# Altium schematic symbol library Discrete.SchLib: 157 symbols (part 1 of 2)
Pins are listed as number, name and electrical type; pins without a type are passive.

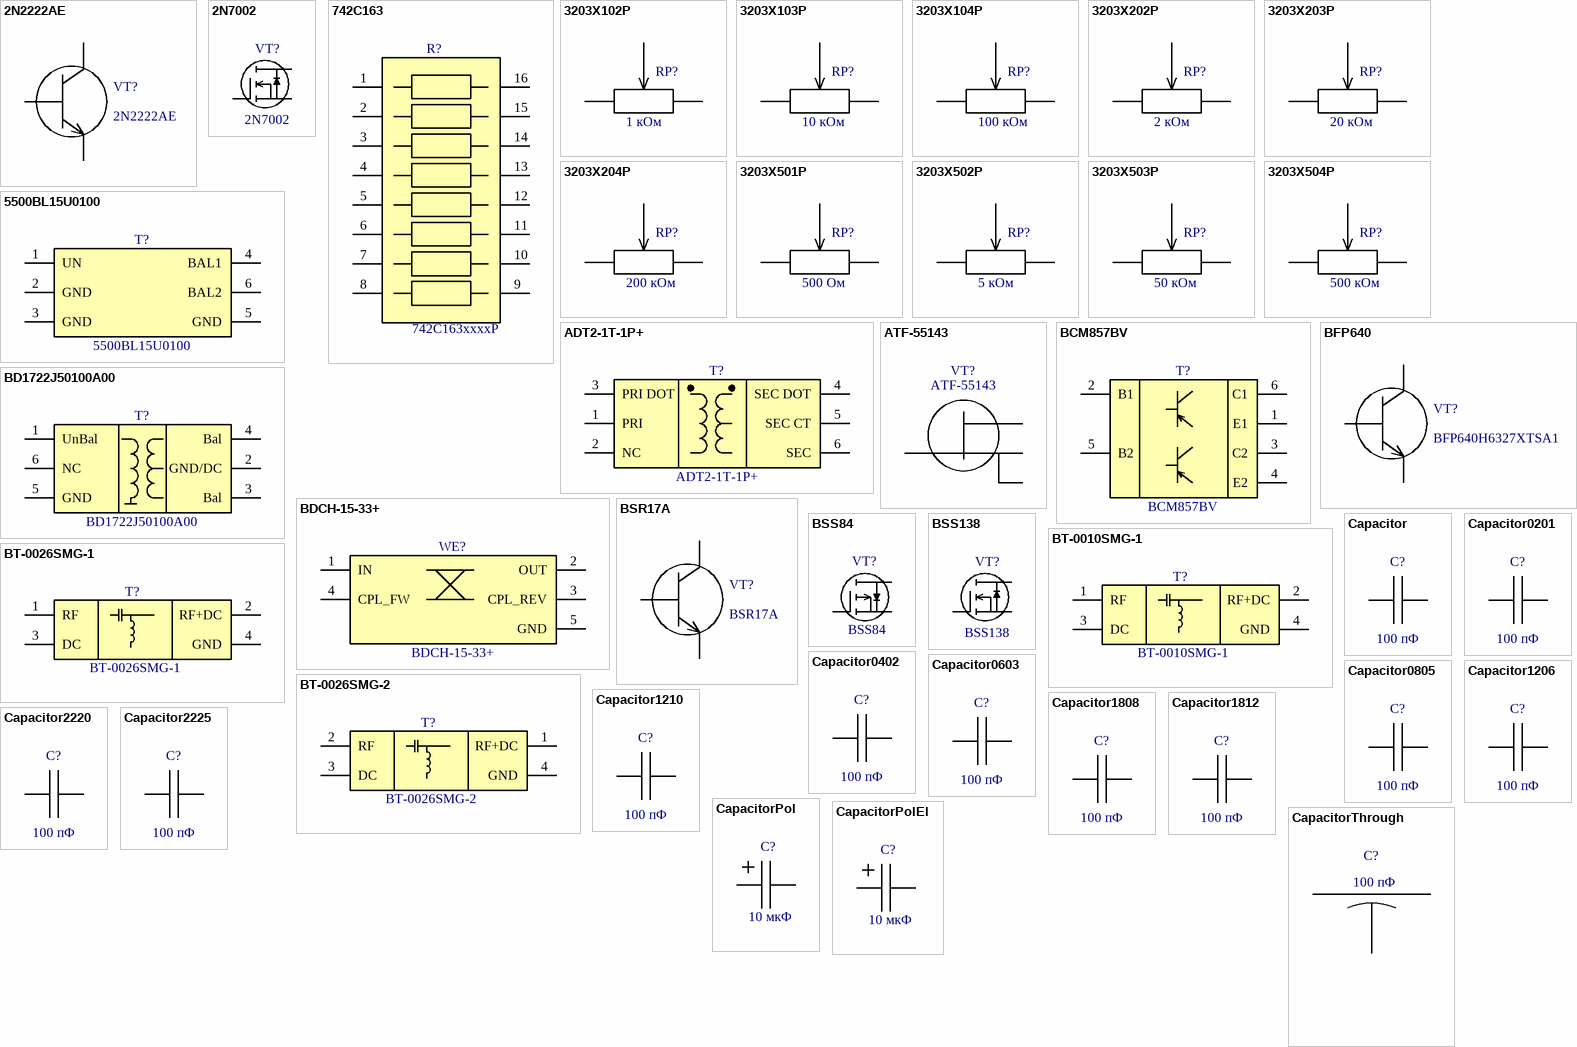
[diagram p0: symbols 2N2222AE to CapacitorThrough]

## 2N2222AE
designator VT?
NPN Transistor, General Purpose Transistor; PartNumber: 2N2222AE; Manufacturer: *
footprint TRXSOFL3P50_160X160X80L40X26 (Transistor, Small Outline Flat Lead (SOFL), 0.50 mm pitch; 3 pin, 1.60 mm L X 0.825 mm W X 0.80 mm H body)
pins: 1 B "base", 2 E "emitter", 3 C "collector"

## 2N7002
designator VT?
N-CHANNEL ENHANCEMENT MODE MOSFET; Manufacturer: Diodes Inc; PartNumber: 2N7002; ComponentLink1Description: Product Page; ComponentLink1URL: https://www.diodes.com/part/view/2N7002; ComponentLink2Description: DataSheet; ComponentLink2URL: https://www.diodes.com/assets/Datasheets/2N7002.pdf
footprint SOT23-3P91_240X115L40X40N (Small Outline Transistor (SOT23), 0.915 mm pitch; 3 pin, 2.90 mm L X 1.30 mm W X 1.15 mm H body)
pins: 1 G, 2 S, 3 D

## 742C163
designator R?, comment 742C163xxxxP
Chip Resistor Array 0603 X 8 Isolated; Manufacturer: CTS Components; PartNumber: 742C163xxxxP; Value: *; Tolerance: *; Power: *; DCV: *; ComponentLink1Description: Product Page; ComponentLink1URL: https://www.ctscorp.com/connect_product_line/resistor-networks-rc-terminations/; ComponentLink2Description: DataSheet; ComponentLink2URL: https://www.ctscorp.com/wp-content/uploads/74x.pdf
footprint RESCAV16P80_640X160X70L30X50N (Chip Array, 2 Side Concave, 0.80 mm pitch; 16 pin, 6.40 mm L X 1.60 mm W X 0.70 mm H body)
pins: 1, 2, 3, 4, 5, 6, 7, 8, 9, 10, 11, 12, 13, 14, 15, 16

## 3203X102P
designator RP?, comment 1 кОм
1K Ω, Cermet, Continuous Trimmer Potentiometer, .25 %, Surface Mount, 3.4 x 3.4 x 2 mm, .05 W, 1 Turns, Top, Horizontal, ±100 ppm/°C, Citec 3203; PartNumber: 3203X102P; Manufacturer: TE Connectivity; Tolerance: ±0,25%; Power: 1/20 Вт; Value: 1 кОм; ComponentLink1Description: Product Page; ComponentLink1URL: https://www.te.com/usa-en/product-1623916-2.html
footprint TE 3203X (TE Connectivity 3203X)
pins: 1, 2, 3

## 3203X103P
designator RP?, comment 10 кОм
10K Ω, Cermet, Continuous Trimmer Potentiometer, .25 %, Surface Mount, 3.4 x 3.4 x 2 mm, .05 W, 1 Turns, Top, Horizontal, ±100 ppm/°C, Citec 3203; PartNumber: 3203X103P; Manufacturer: TE Connectivity; Tolerance: ±0,25%; Power: 1/20 Вт; Value: 10 кОм; ComponentLink1Description: Product Page; ComponentLink1URL: https://www.te.com/usa-en/product-1623916-3.html
footprint TE 3203X (TE Connectivity 3203X)
pins: 1, 2, 3

## 3203X104P
designator RP?, comment 100 кОм
100K Ω, Cermet, Continuous Trimmer Potentiometer, .25 %, Surface Mount, 3.4 x 3.4 x 2 mm, .05 W, 1 Turns, Top, Horizontal, ±100 ppm/°C, Citec 3203; PartNumber: 3203X104P; Manufacturer: TE Connectivity; Tolerance: ±0,25%; Power: 1/20 Вт; Value: 100 кОм; ComponentLink1Description: Product Page; ComponentLink1URL: https://www.te.com/usa-en/product-1623916-4.html
footprint TE 3203X (TE Connectivity 3203X)
pins: 1, 2, 3

## 3203X202P
designator RP?, comment 2 кОм
2K Ω, Cermet, Continuous Trimmer Potentiometer, .25 %, Surface Mount, 3.4 x 3.4 x 2 mm, .05 W, 1 Turns, Top, Horizontal, ±100 ppm/°C, Citec 3203; PartNumber: 3203X202P; Manufacturer: TE Connectivity; Tolerance: ±0,25%; Power: 1/20 Вт; Value: 2 кОм; ComponentLink1Description: Product Page; ComponentLink1URL: https://www.te.com/usa-en/product-1623916-6.html
footprint TE 3203X (TE Connectivity 3203X)
pins: 1, 2, 3

## 3203X203P
designator RP?, comment 20 кОм
20K Ω, Cermet, Continuous Trimmer Potentiometer, .25 %, Surface Mount, 3.4 x 3.4 x 2 mm, .05 W, 1 Turns, Top, Horizontal, ±100 ppm/°C, Citec 3203; PartNumber: 3203X203P; Manufacturer: TE Connectivity; Tolerance: ±0,25%; Power: 1/20 Вт; Value: 20 кОм; ComponentLink1Description: Product Page; ComponentLink1URL: https://www.te.com/usa-en/product-1623916-7.html
footprint TE 3203X (TE Connectivity 3203X)
pins: 1, 2, 3

## 3203X204P
designator RP?, comment 200 кОм
200K Ω, Cermet, Continuous Trimmer Potentiometer, .25 %, Surface Mount, 3.4 x 3.4 x 2 mm, .05 W, 1 Turns, Top, Horizontal, ±100 ppm/°C, Citec 3203; PartNumber: 3203X204P; Manufacturer: TE Connectivity; Tolerance: ±0,25%; Power: 1/20 Вт; Value: 200 кОм; ComponentLink1Description: Product Page; ComponentLink1URL: https://www.te.com/usa-en/product-1623916-8.html
footprint TE 3203X (TE Connectivity 3203X)
pins: 1, 2, 3

## 3203X501P
designator RP?, comment 500 Ом
500 Ω, Cermet, Continuous Trimmer Potentiometer, .25 %, Surface Mount, 3.4 x 3.4 x 2 mm, .05 W, 1 Turns, Top, Horizontal, ±100 ppm/°C, Citec 3203; PartNumber: 3203X501P; Manufacturer: TE Connectivity; Tolerance: ±0,25%; Power: 1/20 Вт; Value: 500 Ом; ComponentLink1Description: Product Page; ComponentLink1URL: https://www.te.com/usa-en/product-1623916-9.html
footprint TE 3203X (TE Connectivity 3203X)
pins: 1, 2, 3

## 3203X502P
designator RP?, comment 5 кОм
5K Ω, Cermet, Single Turn Trimmer Potentiometer, .25 %, Surface Mount, 3.4 x 3.4 x 2 mm, .05 W, 1 Turns, Top, Horizontal, ±100 ppm/°C, Citec 3203; PartNumber: 3203X502P; Manufacturer: TE Connectivity; Tolerance: ±0,25%; Power: 1/20 Вт; Value: 5 кОм; ComponentLink1Description: Product Page; ComponentLink1URL: https://www.te.com/usa-en/product-1-1623916-0.html
footprint TE 3203X (TE Connectivity 3203X)
pins: 1, 2, 3

## 3203X503P
designator RP?, comment 50 кОм
50K Ω, Cermet, Continuous Trimmer Potentiometer, .25 %, Surface Mount, 3.4 x 3.4 x 2 mm, .05 W, 1 Turns, Top, Horizontal, ±100 ppm/°C, Citec 3203; PartNumber: 3203X503P; Manufacturer: TE Connectivity; Tolerance: ±0,25%; Power: 1/20 Вт; Value: 50 кОм; ComponentLink1Description: Product Page; ComponentLink1URL: https://www.te.com/usa-en/product-1-1623916-1.html
footprint TE 3203X (TE Connectivity 3203X)
pins: 1, 2, 3

## 3203X504P
designator RP?, comment 500 кОм
500K Ω, Cermet, Continuous Trimmer Potentiometer, .25 %, Surface Mount, 3.4 x 3.4 x 2 mm, .05 W, 1 Turns, Top, Horizontal, ±100 ppm/°C, Citec 3203; PartNumber: 3203X504P; Manufacturer: TE Connectivity; Tolerance: ±0,25%; Power: 1/20 Вт; Value: 500 кОм; ComponentLink1Description: Product Page; ComponentLink1URL: https://www.te.com/usa-en/product-1-1623916-2.html
footprint TE 3203X (TE Connectivity 3203X)
pins: 1, 2, 3

## 5500BL15U0100
designator T?
UWB Balun (3 - 8 GHz); Manufacturer: Johanson; PartNumber: 5500BL15U0100; ComponentLink1Description: Product Page; ComponentLink1URL: https://www.johansontechnology.com/baluns?option=com_products&id=5500BL15U0100; ComponentLink2Description: DataSheet; ComponentLink2URL: https://www.johansontechnology.com/datasheets/5500BL15U0100/5500BL15U0100.pdf
footprint ICCAF6P65_200X125X105L27X30N (Chip Array, 2 Side Flat, 0.65 mm pitch; 6 pin, 2.00 mm L X 1.25 mm W X 1.05 mm H body)
pins: 1 UN, 2 GND, 3 GND, 4 BAL1, 5 GND, 6 BAL2

## ADT2-1T-1P+
designator T?
1:2 CORE & WIRE Transformer, 8 - 600 MHz, 50Ω; Manufacturer: Mini-Circuits; PartNumber: ADT2-1T-1P+; ComponentLink1Description: Product Page; ComponentLink1URL: https://www.minicircuits.com/WebStore/dashboard.html?model=ADT2-1T-1P%2B; ComponentLink2Description: DataSheet; ComponentLink2URL: https://www.minicircuits.com/WebStore/dashboardPdf?model=ADT2-1T-1P%2B
footprint CD542 (Mini-Circuirts case CD542)
pins: 1 PRI, 2 NC, 3 PRI DOT, 4 SEC DOT, 5 SEC CT, 6 SEC

## ATF-55143
designator VT?
Low Noise PHEMT w/t dbl source; Manufacturer: Broadcom; PartNumber: ATF-55143
footprint SOT343-4RP130_210X120L28X27N (Small Outline Transistor (SOT143), 1.30 mm pitch; 4 pin, 2.05 mm L X 1.25 mm W X 1.20 mm H body (w/reversed pins))
pins: 1 S1, 2 D, 3 S2, 4 G

## BCM857BV
designator T?
PNP/PNP matched double transistor; Manufacturer: Nexperia; PartNumber: BCM857BV; ComponentLink1Description: ProductPage; ComponentLink1URL: https://www.nexperia.com/products/bipolar-transistors/special-feature-transistors/matched-pair-transistors/BCM857BV.html; ComponentLink2Description: DataSheet; ComponentLink2URL: https://assets.nexperia.com/documents/data-sheet/BCM857BV_BS_DS.pdf
footprint SOTFL50P160X60-6N (SOTFL, 6-Leads, Body 1.60x1.60mm, Pitch 0.50mm, IPC Medium Density)
pins: 1 E1, 2 B1, 3 C2, 4 E2, 5 B2, 6 C1

## BD1722J50100A00
designator T?
Ultra Low Profile 0805 Balun 50 to 100 Balanced; Manufacturer: Anaren Microwave; PartNumber: BD1722J50100A00; ComponentLink1Description: Product Page; ComponentLink1URL: https://www.ttm.com/en/solutions/rfs-components/xinger-components/balun-transformers; ComponentLink2Description: DataSheet; ComponentLink2URL: https://cdn.ttm.com/repository/products/wireless-xinger/balun-transformers/BD1722J50100AHF/BD1722J50100AHF_97_E.pdf
footprint PSON6P65_200X125X75L22X30N (Pullback Small Outline No-Lead (PSON), 0.65 mm pitch; 6 pin, 2.00 mm L X 1.25 mm W X 0.75 mm H body)
pins: 1 UnBal, 2 GND/DC, 3 Bal, 4 Bal, 5 GND, 6 NC

## BDCH-15-33+
designator WE?
15.5 dB SMT Bi-Directional Coupler, 500 - 3000 MHz, 50Ω; Manufacturer: Mini-Circuits; PartNumber: BDCH-15-33+; ComponentLink1Description: Product Page; ComponentLink1URL: https://www.minicircuits.com/WebStore/dashboard.html?model=BDCH-15-33%2B; ComponentLink2Description: DataSheet; ComponentLink2URL: https://www.minicircuits.com/WebStore/dashboardPdf?model=BDCH-15-33%2B
footprint PQ2098 (Mini-Circuits CASE PQ2098)
pins: 1 IN, 2 OUT, 3 CPL_REV, 4 CPL_FW, 5 GND

## BFP640
designator VT?, comment BFP640H6327XTSA1
Surface mount high linearity silicon NPN RF bipolar transistor; Manufacturer: Infineon; PartNumber: BFP640H6327XTSA1; ComponentLink1Description: Product Page; ComponentLink1URL: https://www.infineon.com/cms/en/product/rf/rf-transistor/low-noise-rf-transistors/bfp640/#; ComponentLink2Description: DataSheet; ComponentLink2URL: https://www.infineon.com/dgdl/Infineon-BFP640-DS-v03_00-EN.pdf?fileId=5546d462689a790c01690f03a9ca3928
footprint Infineon SOT343 (Small Outline Transistor (SOT143), 1.30 mm pitch; 4 pin, 2.00 mm L X 1.25 mm W X 1.00 mm H body); pin to pad 2>2+4
pins: 1 B "base", 2 E "emitter", 3 C "collector"

## BSR17A
designator VT?
NPN Transistor, General Purpose Transistor; Manufacturer: OnSemi; PartNumber: BSR17A; ComponentLink1Description: Product Page; ComponentLink1URL: https://www.onsemi.com/products/discrete-power-modules/general-purpose-and-low-vcesat-transistors/bsr17a; ComponentLink2Description: DataSheet; ComponentLink2URL: https://www.onsemi.com/download/data-sheet/pdf/bsr17a-d.pdf
footprint SOT23-3P95_240X120L30X48N (Small Outline Transistor (SOT23), 0.95 mm pitch; 3 pin, 2.92 mm L X 1.325 mm W X 1.20 mm H body)
pins: 1 B "base", 2 E "emitter", 3 C "collector"

## BSS84
designator VT?
P-CHANNEL ENHANCEMENT MODE MOSFET; Manufacturer: Diodes Inc; PartNumber: BSS84; ComponentLink1Description: Product Page; ComponentLink1URL: https://www.diodes.com/part/view/BSS84; ComponentLink2Description: DataSheet; ComponentLink2URL: https://www.diodes.com/assets/Datasheets/BSS84.pdf
footprint SOT23-3P91_240X115L40X40N (Small Outline Transistor (SOT23), 0.915 mm pitch; 3 pin, 2.90 mm L X 1.30 mm W X 1.15 mm H body)
pins: 1 G, 2 S, 3 D

## BSS138
designator VT?
N-Channel Logic Level Enhancement Mode Field Effect Transistor; Manufacturer: OnSemi; PartNumber: BSS138; ComponentLink1Description: Product Page; ComponentLink1URL: https://www.onsemi.com/products/discrete-power-modules/mosfets/BSS138; ComponentLink2Description: DataSheet; ComponentLink2URL: https://www.onsemi.com/download/data-sheet/pdf/bss138-d.pdf
footprint SOT23-3P95_240X111L42X43N (Small Outline Transistor (SOT23), 0.95 mm pitch; 3 pin, 2.90 mm L X 1.30 mm W X 1.11 mm H body)
pins: 1 G, 2 S, 3 D

## BT-0010SMG-1
designator T?
20 MHz - 10 GHz Bias Tee, Surface Mount, Port Configiration 1; Manufacturer: Marki; PartNumber: BT-0010SMG-1; ComponentLink1Description: DataSheet; ComponentLink1URL: https://www.markimicrowave.com/Assets/datasheets/BT-0010SMG.pdf?v=032921
footprint BT-0010SMG (Marki Microwave case BT-0010SMG-1)
pins: 1 RF, 2 RF+DC, 3 DC, 4 GND

## BT-0026SMG-1
designator T?
20 MHz - 26 GHz Bias Tee, Surface Mount, Port Configiration 1; Manufacturer: Marki; PartNumber: BT-0026SMG-1; ComponentLink1Description: Product Page; ComponentLink1URL: https://markimicrowave.com/products/surface-mount/bias-tees-dc-blocks/bt-0026smg-1/datasheet/; ComponentLink2Description: DataSheet; ComponentLink2URL: https://markimicrowave.com/assets/9dd9949d-5389-4c94-b8b9-a7fec51fc8cb/BT-0026SMG-1-Miniature%20Surface%20Mount%20Bias%20Tee.pdf
footprint BT-0026SMG-1 (Marki Microwave case BT-0010SMG-1)
pins: 1 RF, 2 RF+DC, 3 DC, 4 GND

## BT-0026SMG-2
designator T?
20 MHz - 26 GHz Bias Tee, Surface Mount, Port Configiration 2; Manufacturer: Marki; PartNumber: BT-0026SMG-2; ComponentLink1Description: Product Page; ComponentLink1URL: https://markimicrowave.com/products/surface-mount/bias-tees-dc-blocks/bt-0026smg-2/datasheet/; ComponentLink2Description: DataSheet; ComponentLink2URL: https://markimicrowave.com/assets/6264d400-366a-4899-8997-82a3fa326f06/BT-0026SMG-2-Miniature%20Surface%20Mount%20Bias%20Tee.pdf
footprint BT-0026SMG-2 (Marki Microwave case BT-0010SMG-2)
pins: 1 RF+DC, 2 RF, 3 DC, 4 GND

## Capacitor
designator C?, comment 100 пФ
Capacitor, generic; Value: 100 пФ; PartNumber: *; Tolerance: *; VDC: *; Dielectric: *; Manufacturer: *; Package: 0402
footprint CAPC60X30X33L15N (Capacitor, Chip; 0.60 mm L X 0.30 mm W X 0.33 mm H body)
footprint CAPC100X50X55L20N (Capacitor, Chip; 1.00 mm L X 0.50 mm W X 0.55 mm H body)
footprint CAPC146X140X145L31N (Capacitor, Chip; 1.465 mm L X 1.40 mm W X 1.45 mm H body)
footprint CAPC160X80X90L30N (Capacitor, Chip; 1.60 mm L X 0.80 mm W X 0.90 mm H body)
footprint CAPC200X125X95L50N (Capacitor, Chip; 2.00 mm L X 1.25 mm W X 0.95 mm H body)
footprint CAPC320X160X180L20N (Capacitor, Chip; 3.20 mm L X 1.60 mm W X 1.80 mm H body)
footprint CAPC320X250X280L20N (Capacitor, Chip; 3.20 mm L X 2.50 mm W X 2.80 mm H body)
footprint CAPC450X320X360L20N (Capacitor, Chip; 4.50 mm L X 3.20 mm W X 3.60 mm H body)
footprint CAPC470X200X115L60N (Capacitor, Chip; 4.70 mm L X 2.00 mm W X 1.15 mm H body)
footprint CAPC560X640X155L60N (Capacitor, Chip; 5.60 mm L X 6.40 mm W X 1.55 mm H body)
footprint CAPC570X500X310L20N (Capacitor, Chip; 5.70 mm L X 5.00 mm W X 3.10 mm H body)
pins: 1, 2

## Capacitor0201
designator C?, comment 100 пФ
Capacitor, chip, 0201; Value: 100 пФ; PartNumber: *; Tolerance: *; VDC: *; Dielectric: *; Manufacturer: *; Package: 0201
footprint CAPC60X30X33L15N (Capacitor, Chip; 0.60 mm L X 0.30 mm W X 0.33 mm H body)
pins: 1, 2

## Capacitor0402
designator C?, comment 100 пФ
Capacitor, chip, 0402; Value: 100 пФ; PartNumber: *; Tolerance: *; VDC: *; Dielectric: *; Manufacturer: *; Package: 0402
footprint CAPC100X50X55L20N (Capacitor, Chip; 1.00 mm L X 0.50 mm W X 0.55 mm H body)
pins: 1, 2

## Capacitor0603
designator C?, comment 100 пФ
Capacitor, chip, 0603; Value: 100 пФ; PartNumber: *; Tolerance: *; VDC: *; Dielectric: *; Manufacturer: *; Package: 0603
footprint CAPC160X80X90L30N (Capacitor, Chip; 1.60 mm L X 0.80 mm W X 0.90 mm H body)
pins: 1, 2

## Capacitor0805
designator C?, comment 100 пФ
Capacitor, chip, 0805; Value: 100 пФ; PartNumber: *; Tolerance: *; VDC: *; Dielectric: *; Manufacturer: *; Package: 0805
footprint CAPC200X125X95L50N (Capacitor, Chip; 2.00 mm L X 1.25 mm W X 0.95 mm H body)
pins: 1, 2

## Capacitor1206
designator C?, comment 100 пФ
Capacitor, chip, 1206; Value: 100 пФ; PartNumber: *; Tolerance: *; VDC: *; Dielectric: *; Manufacturer: *; Package: 1206
footprint CAPC320X160X180L20N (Capacitor, Chip; 3.20 mm L X 1.60 mm W X 1.80 mm H body)
pins: 1, 2

## Capacitor1210
designator C?, comment 100 пФ
Capacitor, chip, 1210; Value: 100 пФ; PartNumber: *; Tolerance: *; VDC: *; Dielectric: *; Manufacturer: *; Package: 1210
footprint CAPC320X250X280L20N (Capacitor, Chip; 3.20 mm L X 2.50 mm W X 2.80 mm H body)
pins: 1, 2

## Capacitor1808
designator C?, comment 100 пФ
Capacitor, chip, 1808; Value: 100 пФ; PartNumber: *; Tolerance: *; VDC: *; Dielectric: *; Manufacturer: *; Package: 1808
footprint CAPC470X200X115L60N (Capacitor, Chip; 4.70 mm L X 2.00 mm W X 1.15 mm H body)
pins: 1, 2

## Capacitor1812
designator C?, comment 100 пФ
Capacitor, chip, 1812; Value: 100 пФ; PartNumber: *; Tolerance: *; VDC: *; Dielectric: *; Manufacturer: *; Package: 1812
footprint CAPC450X320X360L20N (Capacitor, Chip; 4.50 mm L X 3.20 mm W X 3.60 mm H body)
pins: 1, 2

## Capacitor2220
designator C?, comment 100 пФ
Capacitor, chip, 2220; Value: 100 пФ; PartNumber: *; Tolerance: *; VDC: *; Dielectric: *; Manufacturer: *; Package: 2220
footprint CAPC570X500X310L20N (Capacitor, Chip; 5.70 mm L X 5.00 mm W X 3.10 mm H body)
pins: 1, 2

## Capacitor2225
designator C?, comment 100 пФ
Capacitor, chip, 2225; Value: 100 пФ; PartNumber: *; Tolerance: *; VDC: *; Dielectric: *; Manufacturer: *; Package: 2225
footprint CAPC560X640X155L60N (Capacitor, Chip; 5.60 mm L X 6.40 mm W X 1.55 mm H body)
pins: 1, 2

## CapacitorPol
designator C?, comment 10 мкФ
Capacitor, Pol, generic; Value: 10 мкФ; PartNumber: *; Tolerance: *; VDC: *; Manufacturer: *; Package: 1206; ESR: *
footprint CAPPM320X160X180L80X120N (Capacitor, Polarized, Molded Body; 2.60 mm L X 1.60 mm W X 1.80 mm H body)
footprint CAPPM350X280X210L80X220N (Capacitor, Polarized, Molded Body; 2.90 mm L X 2.80 mm W X 2.10 mm H body)
footprint CAPPM600X320X280L130X240N (Capacitor, Polarized, Molded Body; 5.80 mm L X 3.20 mm W X 2.80 mm H body)
footprint CAPPM730X430X310L130X240N (Capacitor, Polarized, Molded Body; 7.10 mm L X 4.30 mm W X 3.10 mm H body)
pins: 1, 2

## CapacitorPolEl
designator C?, comment 10 мкФ
Capacitor, Pol, El, generic; Value: 10 мкФ; PartNumber: *; Tolerance: *; VDC: *; Manufacturer: *; Package: *; ESR: *
footprint CAPAE430X600D510L205X65N (Capacitor, Aluminum Electrolytic; 4.30 mm L X 4.30 mm W X 6.00 mm H body)
footprint CAPAE530X600D590L220X65N (Capacitor, Aluminum Electrolytic; 5.30 mm L X 5.30 mm W X 6.00 mm H body)
footprint CAPAE840X680D840L305X65N (Capacitor, Aluminum Electrolytic; 8.40 mm L X 8.40 mm W X 6.80 mm H body)
footprint CAPAE1030X1050D1200L350X90N (Capacitor, Aluminum Electrolytic; 10.30 mm L X 10.30 mm W X 10.50 mm H body)
footprint CAPAE660X610L260X65 (Capacitor, Aluminum Electrolytic; 6.60 mm L X 6.60 mm W X 6.10 mm H body)
footprint CAPAE830X700D900L290X70N (Capacitor, Aluminum Electrolytic; 8.30 mm L X 8.30 mm W X 7.00 mm H body)
pins: 1, 2

## CapacitorThrough
designator C?, comment 100 пФ
Capacitor, through, 3-terminal; Value: 100 пФ; PartNumber: *; Tolerance: *; VDC: *; Dielectric: *; Manufacturer: *; Package: 0402
footprint CAPCAF4P0_100X50X50L15X35N (Chip Array, 4 Side Flat, 0.00 mm pitch; rect., 1 pin X 1 pin, 1.00 mm L X 0.50 mm W X 0.50 mm H body)
footprint CAPCAF4P0_120X90X80L20X50N (Chip Array, 4 Side Flat, 0.00 mm pitch; rect., 1 pin X 1 pin, 1.20 mm L X 0.90 mm W X 0.80 mm H body)
footprint CAPCAF4P0_160X80X70L20X40N (Chip Array, 4 Side Flat, 0.00 mm pitch; rect., 1 pin X 1 pin, 1.60 mm L X 0.80 mm W X 0.70 mm H body)
footprint CAPCAF4P0_200X125X95L25X60N (Chip Array, 4 Side Flat, 0.00 mm pitch; rect., 1 pin X 1 pin, 2.00 mm L X 1.25 mm W X 0.95 mm H body)
footprint CAPCAF4P0_320X160X150L30X110N (Chip Array, 4 Side Flat, 0.00 mm pitch; rect., 1 pin X 1 pin, 3.20 mm L X 1.60 mm W X 1.50 mm H body)
footprint CAPCAF4P0_450X160X120L35X150N (Chip Array, 4 Side Flat, 0.00 mm pitch; rect., 1 pin X 1 pin, 4.50 mm L X 1.60 mm W X 1.20 mm H body)
pins: 1, 2, 3

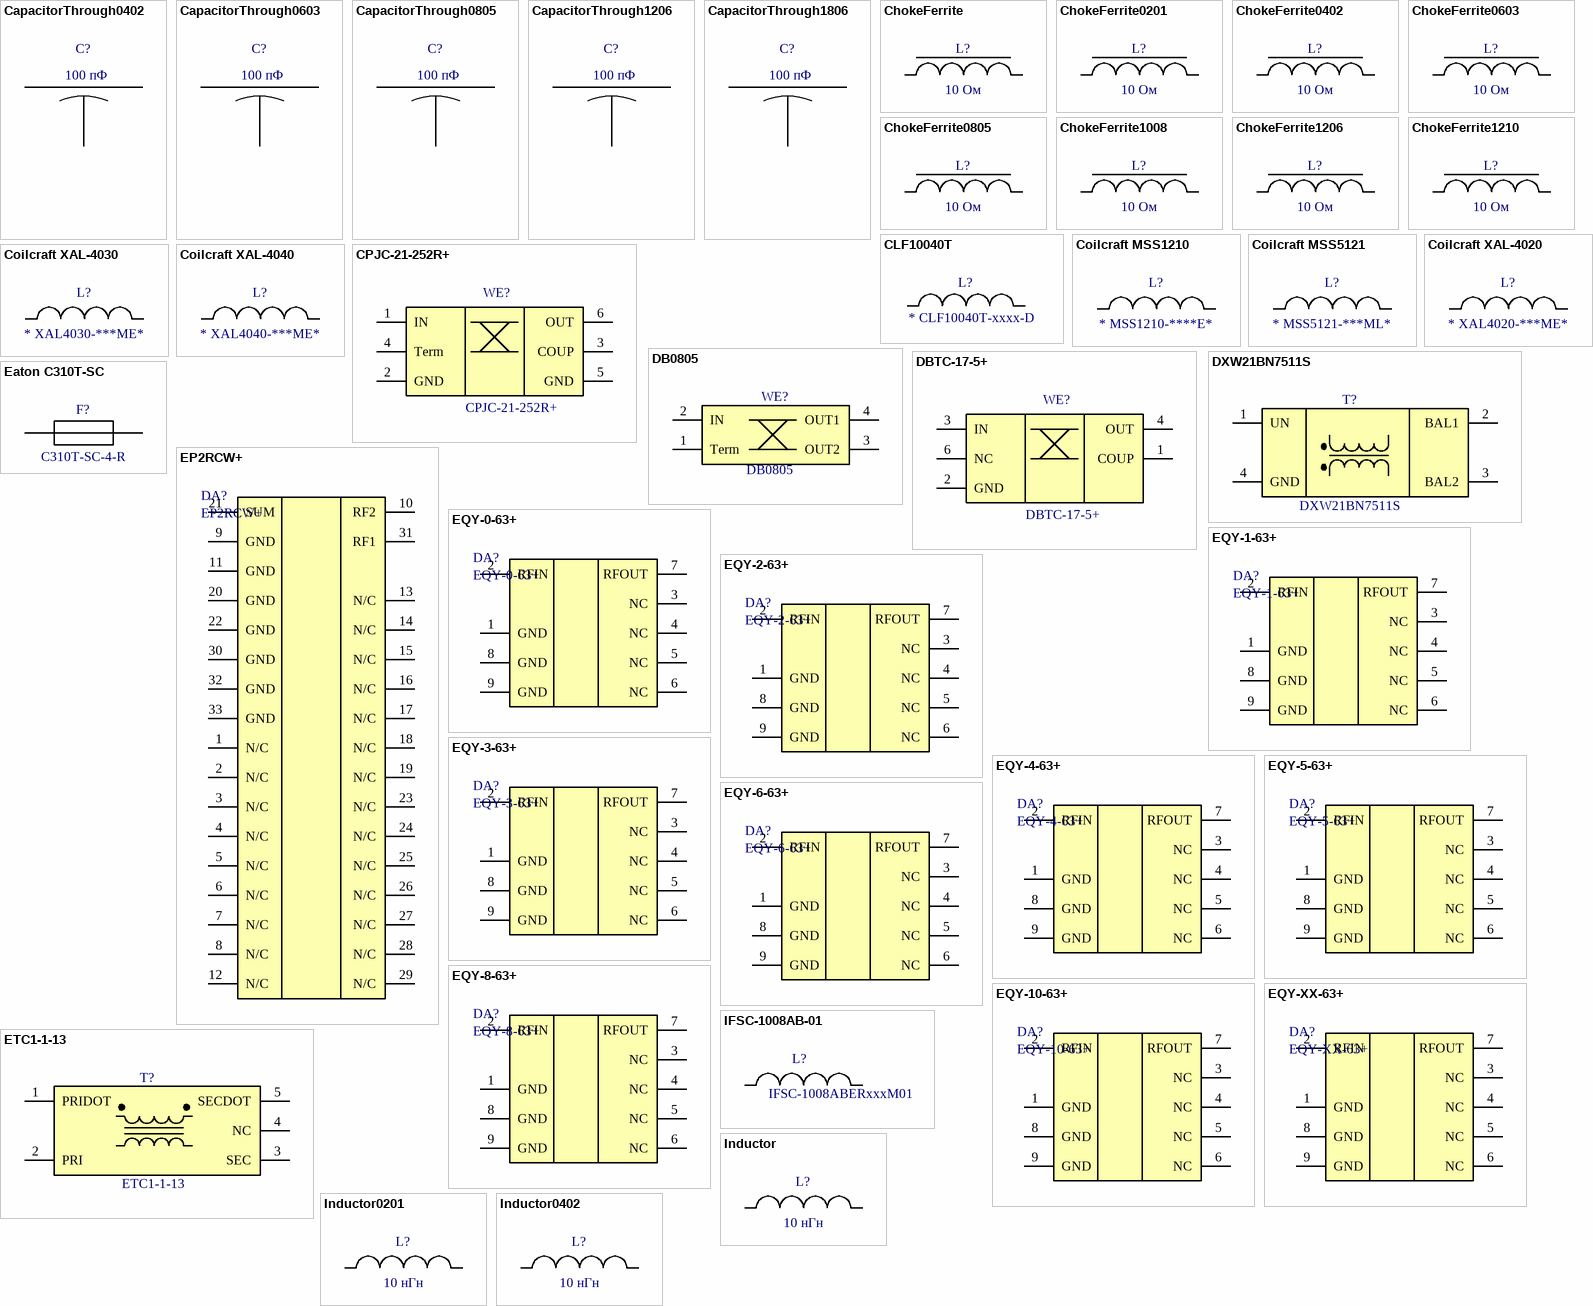
[diagram p1: symbols CapacitorThrough0402 to Inductor0402]

## CapacitorThrough0402
designator C?, comment 100 пФ
Capacitor, through, 3-terminal, 0402; Value: 100 пФ; PartNumber: *; Tolerance: *; VDC: *; Dielectric: *; Manufacturer: *; Package: 0402
footprint CAPCAF4P0_100X50X50L15X35N (Chip Array, 4 Side Flat, 0.00 mm pitch; rect., 1 pin X 1 pin, 1.00 mm L X 0.50 mm W X 0.50 mm H body)
pins: 1, 2, 3

## CapacitorThrough0603
designator C?, comment 100 пФ
Capacitor, through, 3-terminal, 0603; Value: 100 пФ; PartNumber: *; Tolerance: *; VDC: *; Dielectric: *; Manufacturer: *; Package: 0603
footprint CAPCAF4P0_160X80X70L20X40N (Chip Array, 4 Side Flat, 0.00 mm pitch; rect., 1 pin X 1 pin, 1.60 mm L X 0.80 mm W X 0.70 mm H body)
pins: 1, 2, 3

## CapacitorThrough0805
designator C?, comment 100 пФ
Capacitor, through, 3-terminal, 0805; Value: 100 пФ; PartNumber: *; Tolerance: *; VDC: *; Dielectric: *; Manufacturer: *; Package: 0805
footprint CAPCAF4P0_200X125X95L25X60N (Chip Array, 4 Side Flat, 0.00 mm pitch; rect., 1 pin X 1 pin, 2.00 mm L X 1.25 mm W X 0.95 mm H body)
pins: 1, 2, 3

## CapacitorThrough1206
designator C?, comment 100 пФ
Capacitor, through, 3-terminal, 1206; Value: 100 пФ; PartNumber: *; Tolerance: *; VDC: *; Dielectric: *; Manufacturer: *; Package: 1206
footprint CAPCAF4P0_320X160X150L30X110N (Chip Array, 4 Side Flat, 0.00 mm pitch; rect., 1 pin X 1 pin, 3.20 mm L X 1.60 mm W X 1.50 mm H body)
pins: 1, 2, 3

## CapacitorThrough1806
designator C?, comment 100 пФ
Capacitor, through, 3-terminal, 1806; Value: 100 пФ; PartNumber: *; Tolerance: *; VDC: *; Dielectric: *; Manufacturer: *; Package: 1806
footprint CAPCAF4P0_450X160X120L35X150N (Chip Array, 4 Side Flat, 0.00 mm pitch; rect., 1 pin X 1 pin, 4.50 mm L X 1.60 mm W X 1.20 mm H body)
pins: 1, 2, 3

## ChokeFerrite
designator L?, comment 10 Ом
Choke, Ferrite Core, SMD; Value: 10 Ом; PartNumber: *; Tolerance: *; DCR: *; IRMS: *; DCI: *; Manufacturer: *; Package: 0402
footprint BEADC60X30X33L10N (Ferrite Bead, Chip; 0.60 mm L X 0.30 mm W X 0.33 mm H body)
footprint BEADC100X50X55L20N (Ferrite Bead, Chip; 1.00 mm L X 0.50 mm W X 0.55 mm H body)
footprint BEADC160X80X100L30N (Ferrite Bead, Chip; 1.60 mm L X 0.80 mm W X 1.00 mm H body)
footprint BEADC200X125X105L50N (Ferrite Bead, Chip; 2.00 mm L X 1.25 mm W X 1.05 mm H body)
footprint BEADC250X200X100L50N (Ferrite Bead, Chip; 2.50 mm L X 2.00 mm W X 1.00 mm H body)
footprint BEADC320X160X180L70N (Ferrite Bead, Chip; 3.20 mm L X 1.60 mm W X 1.80 mm H body)
footprint BEADC320X250X170L70N (Ferrite Bead, Chip; 3.20 mm L X 2.50 mm W X 1.70 mm H body)
pins: 1, 2

## ChokeFerrite0201
designator L?, comment 10 Ом
Choke, Ferrite Core, SMD, 0201; Value: 10 Ом; PartNumber: *; Tolerance: *; DCR: *; IRMS: *; DCI: *; Manufacturer: *; Package: 0201
footprint BEADC60X30X33L10N (Ferrite Bead, Chip; 0.60 mm L X 0.30 mm W X 0.33 mm H body)
pins: 1, 2

## ChokeFerrite0402
designator L?, comment 10 Ом
Choke, Ferrite Core, SMD, 0402; Value: 10 Ом; PartNumber: *; Tolerance: *; DCR: *; IRMS: *; DCI: *; Manufacturer: *; Package: 0402
footprint BEADC100X50X55L20N (Ferrite Bead, Chip; 1.00 mm L X 0.50 mm W X 0.55 mm H body)
pins: 1, 2

## ChokeFerrite0603
designator L?, comment 10 Ом
Choke, Ferrite Core, SMD, 0603; Value: 10 Ом; PartNumber: *; Tolerance: *; DCR: *; IRMS: *; DCI: *; Manufacturer: *; Package: 0603
footprint BEADC160X80X100L30N (Ferrite Bead, Chip; 1.60 mm L X 0.80 mm W X 1.00 mm H body)
pins: 1, 2

## ChokeFerrite0805
designator L?, comment 10 Ом
Choke, Ferrite Core, SMD, 0805; Value: 10 Ом; PartNumber: *; Tolerance: *; DCR: *; IRMS: *; DCI: *; Manufacturer: *; Package: 0805
footprint BEADC200X125X105L50N (Ferrite Bead, Chip; 2.00 mm L X 1.25 mm W X 1.05 mm H body)
pins: 1, 2

## ChokeFerrite1008
designator L?, comment 10 Ом
Choke, Ferrite Core, SMD, 1008; Value: 10 Ом; PartNumber: *; Tolerance: *; DCR: *; IRMS: *; DCI: *; Manufacturer: *; Package: 1008
footprint BEADC250X200X100L50N (Ferrite Bead, Chip; 2.50 mm L X 2.00 mm W X 1.00 mm H body)
pins: 1, 2

## ChokeFerrite1206
designator L?, comment 10 Ом
Choke, Ferrite Core, SMD, 1206; Value: 10 Ом; PartNumber: *; Tolerance: *; DCR: *; IRMS: *; DCI: *; Manufacturer: *; Package: 1206
footprint BEADC320X160X180L70N (Ferrite Bead, Chip; 3.20 mm L X 1.60 mm W X 1.80 mm H body)
pins: 1, 2

## ChokeFerrite1210
designator L?, comment 10 Ом
Choke, Ferrite Core, SMD, 1210; Value: 10 Ом; PartNumber: *; Tolerance: *; DCR: *; IRMS: *; DCI: *; Manufacturer: *; Package: 1210
footprint BEADC320X250X170L70N (Ferrite Bead, Chip; 3.20 mm L X 2.50 mm W X 1.70 mm H body)
pins: 1, 2

## CLF10040T
designator L?, comment * CLF10040T-xxxx-D
Inductors for power circuits, Wound ferrite, CLF-D series (for automotive); Manufacturer: Coilcraft; Value: *; Tolerance: *; DCR: *; ISAT: *; IRMS: *; PartNumber: CLF10040T-xxxx-D
footprint COILCRAFT_CLF10040-D (Coilcraft 10x9.7x3.8 shileded inductor)
pins: 1, 2

## Coilcraft MSS1210
designator L?, comment * MSS1210-****E*
Coilcraft Shielded Power Inductors, 12.3x12.3x10; Value: *; PartNumber: MSS1210-****E*; Tolerance: *; DCR: *; IRMS: *; ISAT: *; SRF: *; Manufacturer: Coilcraft
footprint COILCRAFT_MSS1210 (Coilcraft Shielded Power Inductors, 12.3x12.3x10)
pins: 1, 2

## Coilcraft MSS5121
designator L?, comment * MSS5121-***ML*
MSS5121 Series Shielded Surface Mount Power Inductors, 5.1x5.1x2.2; Manufacturer: Coilcraft; Tolerance: ±20%; Value: *; PartNumber: MSS5121-***ML*; DCR: *; IRMS: *; ISAT: *; SRF: *
footprint Coilcraft MSS5121 (MSS5121 Series Shielded Surface Mount Power Inductors, 5.1x5.1x2.2)
pins: 1, 2

## Coilcraft XAL-4020
designator L?, comment * XAL4020-***ME*
Coilcraft Shielded Power Inductor, 4x4x2; Tolerance: ±20%; Value: *; PartNumber: XAL4020-***ME*; DCR: *; IRMS: *; ISAT: *; SRF: *; Manufacturer: Coilcraft
footprint COILCRAFT_XAL4020 (Coilcraft Power Inductor, 4x4x2)
pins: 1, 2

## Coilcraft XAL-4030
designator L?, comment * XAL4030-***ME*
Coilcraft Shielded Power Inductor, 4x4x3; Tolerance: ±20%; Value: *; PartNumber: XAL4030-***ME*; DCR: *; IRMS: *; ISAT: *; SRF: *; Manufacturer: Coilcraft
footprint COILCRAFT_XAL4030 (Coilcraft Power Inductor, 4x4x3)
pins: 1, 2

## Coilcraft XAL-4040
designator L?, comment * XAL4040-***ME*
Coilcraft Shielded Power Inductor, 4x4x4; Tolerance: ±20%; Value: *; PartNumber: XAL4040-***ME*; DCR: *; IRMS: *; ISAT: *; SRF: *; Manufacturer: Coilcraft
footprint COILCRAFT_XAL4040 (Coilcraft Power Inductor, 4x4x4)
pins: 1, 2

## CPJC-21-252R+
designator WE?
Directional Coupler 50Ω, 17dB coupling, 50 to 2000 MHz; Manufacturer: Mini-Circuits; PartNumber: CPJC-21-252R+; ComponentLink1Description: Product Page; ComponentLink1URL: https://www.minicircuits.com/WebStore/dashboard.html?model=CPJC-21-252R%2B; ComponentLink2Description: DataSheet; ComponentLink2URL: https://www.minicircuits.com/WebStore/dashboardPdf?model=CPJC-21-252R%2B
footprint JC0603C (Mini-Circuits CASE JC0603C)
pins: 1 IN, 2 GND, 3 COUP, 4 Term, 5 GND, 6 OUT

## DB0805
designator WE?
Thin-Film Directional Coupler 3dB 90°; Manufacturer: Kyocera AVX; PartNumber: DB0805; ComponentLink1Description: Product Page; ComponentLink1URL: https://www.kyocera-avx.com/products/rfmicrowave/couplers/db0805/
footprint AVXRF DB0805 (AVX RF case DB0805)
pins: 1 Term, 2 IN, 3 OUT2, 4 OUT1

## DBTC-17-5+
designator WE?
Directional Coupler 50Ω, 17dB coupling, 50 to 2000 MHz; Manufacturer: Mini-Circuits; PartNumber: DBTC-17-5+; ComponentLink1Description: Product Page; ComponentLink1URL: https://www.minicircuits.com/WebStore/dashboard.html?model=DBTC-17-5%2B; ComponentLink2Description: DataSheet; ComponentLink2URL: https://www.minicircuits.com/WebStore/dashboardPdf?model=DBTC-17-5%2B
footprint AT790-1 (Mini-Circuirts case AT790-1)
pins: 1 COUP, 2 GND, 3 IN, 4 OUT, 6 NC

## DXW21BN7511S
designator T?
Ultra miniature size and wire wound type microchip / transformer. 2.0x1.2x1.2mm; Manufacturer: Murata; PartNumber: DXW21BN7511S; ComponentLink1Description: ProductPage; ComponentLink1URL: https://www.murata.com/en-eu/products/productdetail?partno=DXW21BN7511S%23; ComponentLink2Description: DataSheet; ComponentLink2URL: https://www.murata.com/products/productdata/8796776267806/EFKA0001.pdf?1655782219000
footprint DXW21BN7511S (Murata 2012 4-terminal)
pins: 1 UN, 2 BAL1, 3 BAL2, 4 GND

## Eaton C310T-SC
designator F?, comment C310T-SC-4-R
Fuse Subminiature Slow Blow Acting 4A 250V Axial 3.6 X 10mm Ceramic; Manufacturer: Eaton; PartNumber: C310T-SC-4-R; ComponentLink1Description: Product Page; ComponentLink1URL: https://www.eaton.com/gb/en-gb/catalog/electronic-components/c310t-sc-fuse.specifications.html
footprint EATON C310T-SC (3.6 mm x 10 mm pitch 13.5 mm)
pins: 1, 2

## EP2RCW+
designator DA?
2 Ways MMIC Power Splitter, DC - 8000 MHz, 50Ω; Manufacturer: Mini-Circuits; PartNumber: EP2RCW+; ComponentLink1Description: Product Page; ComponentLink1URL: https://www.minicircuits.com/WebStore/dashboard.html?model=EP2RCW%2B; ComponentLink2Description: DataSheet; ComponentLink2URL: https://www.minicircuits.com/WebStore/dashboardPdf?model=EP2RCW%2B
footprint QFN33P50_500X500X100L40X24T380N (Quad Flat No-Lead (QFN with Tab), 0.50 mm pitch; square, 8 pin X 8 pin, 5.00 mm L X 5.00 mm W X 1.00 mm H body)
pins: 1 N/C, 2 N/C, 3 N/C, 4 N/C, 5 N/C, 6 N/C, 7 N/C, 8 N/C, 9 GND, 10 RF2, 11 GND, 12 N/C, 13 N/C, 14 N/C, 15 N/C, 16 N/C, 17 N/C, 18 N/C, 19 N/C, 20 GND, 21 SUM, 22 GND, 23 N/C, 24 N/C, 25 N/C, 26 N/C, 27 N/C, 28 N/C, 29 N/C, 30 GND, 31 RF1, 32 GND, 33 GND

## EQY-0-63+
designator DA?
-0.1 dB SMT Fixed Slope Equalizer, DC - 6000 MHz; Manufacturer: Mini-Circuits; PartNumber: EQY-0-63+; ComponentLink2Description: DataSheet; ComponentLink1Description: Product Page; ComponentLink1URL: https://www.minicircuits.com/WebStore/dashboard.html?model=EQY-0-63%2B; ComponentLink2URL: https://www.minicircuits.com/WebStore/dashboardPdf?model=EQY-0-63%2B
footprint SON9P50_200X200X100L35X23T120X60N (Small Outline No-Lead (SON with Tab), 0.50 mm pitch; 8 pin, 2.00 mm L X 2.00 mm W X 1.00 mm H body)
pins: 1 GND, 2 RFIN, 3 NC, 4 NC, 5 NC, 6 NC, 7 RFOUT, 8 GND, 9 GND

## EQY-1-63+
designator DA?
1.2 dB SMT Fixed Slope Equalizer, DC - 6000 MHz; Manufacturer: Mini-Circuits; PartNumber: EQY-1-63+; ComponentLink2Description: DataSheet; ComponentLink1Description: Product Page; ComponentLink1URL: https://www.minicircuits.com/WebStore/dashboard.html?model=EQY-1-63%2B; ComponentLink2URL: https://www.minicircuits.com/WebStore/dashboardPdf?model=EQY-1-63%2B
footprint SON9P50_200X200X100L35X23T120X60N (Small Outline No-Lead (SON with Tab), 0.50 mm pitch; 8 pin, 2.00 mm L X 2.00 mm W X 1.00 mm H body)
pins: 1 GND, 2 RFIN, 3 NC, 4 NC, 5 NC, 6 NC, 7 RFOUT, 8 GND, 9 GND

## EQY-2-63+
designator DA?
2.1 dB SMT Fixed Slope Equalizer, DC - 6000 MHz; Manufacturer: Mini-Circuits; PartNumber: EQY-2-63+; ComponentLink2Description: DataSheet; ComponentLink1Description: Product Page; ComponentLink1URL: https://www.minicircuits.com/WebStore/dashboard.html?model=EQY-2-63%2B; ComponentLink2URL: https://www.minicircuits.com/WebStore/dashboardPdf?model=EQY-2-63%2B
footprint SON9P50_200X200X100L35X23T120X60N (Small Outline No-Lead (SON with Tab), 0.50 mm pitch; 8 pin, 2.00 mm L X 2.00 mm W X 1.00 mm H body)
pins: 1 GND, 2 RFIN, 3 NC, 4 NC, 5 NC, 6 NC, 7 RFOUT, 8 GND, 9 GND

## EQY-3-63+
designator DA?
3.2 dB SMT Fixed Slope Equalizer, DC - 6000 MHz; Manufacturer: Mini-Circuits; PartNumber: EQY-3-63+; ComponentLink2Description: DataSheet; ComponentLink1Description: Product Page; ComponentLink1URL: https://www.minicircuits.com/WebStore/dashboard.html?model=EQY-3-63%2B; ComponentLink2URL: https://www.minicircuits.com/WebStore/dashboardPdf?model=EQY-3-63%2B
footprint SON9P50_200X200X100L35X23T120X60N (Small Outline No-Lead (SON with Tab), 0.50 mm pitch; 8 pin, 2.00 mm L X 2.00 mm W X 1.00 mm H body)
pins: 1 GND, 2 RFIN, 3 NC, 4 NC, 5 NC, 6 NC, 7 RFOUT, 8 GND, 9 GND

## EQY-4-63+
designator DA?
4.2 dB SMT Fixed Slope Equalizer, DC - 6000 MHz; Manufacturer: Mini-Circuits; PartNumber: EQY-4-63+; ComponentLink2Description: DataSheet; ComponentLink1Description: Product Page; ComponentLink1URL: https://www.minicircuits.com/WebStore/dashboard.html?model=EQY-4-63%2B; ComponentLink2URL: https://www.minicircuits.com/WebStore/dashboardPdf?model=EQY-4-63%2B
footprint SON9P50_200X200X100L35X23T120X60N (Small Outline No-Lead (SON with Tab), 0.50 mm pitch; 8 pin, 2.00 mm L X 2.00 mm W X 1.00 mm H body)
pins: 1 GND, 2 RFIN, 3 NC, 4 NC, 5 NC, 6 NC, 7 RFOUT, 8 GND, 9 GND

## EQY-5-63+
designator DA?
5 dB SMT Fixed Slope Equalizer, DC - 6000 MHz; Manufacturer: Mini-Circuits; PartNumber: EQY-5-63+; ComponentLink2Description: DataSheet; ComponentLink1Description: Product Page; ComponentLink1URL: https://www.minicircuits.com/WebStore/dashboard.html?model=EQY-5-63%2B; ComponentLink2URL: https://www.minicircuits.com/WebStore/dashboardPdf?model=EQY-5-63%2B
footprint SON9P50_200X200X100L35X23T120X60N (Small Outline No-Lead (SON with Tab), 0.50 mm pitch; 8 pin, 2.00 mm L X 2.00 mm W X 1.00 mm H body)
pins: 1 GND, 2 RFIN, 3 NC, 4 NC, 5 NC, 6 NC, 7 RFOUT, 8 GND, 9 GND

## EQY-6-63+
designator DA?
6.5 dB SMT Fixed Slope Equalizer, DC - 6000 MHz; Manufacturer: Mini-Circuits; PartNumber: EQY-6-63+; ComponentLink2Description: DataSheet; ComponentLink1Description: Product Page; ComponentLink1URL: https://www.minicircuits.com/WebStore/dashboard.html?model=EQY-6-63%2B; ComponentLink2URL: https://www.minicircuits.com/WebStore/dashboardPdf?model=EQY-6-63%2B
footprint SON9P50_200X200X100L35X23T120X60N (Small Outline No-Lead (SON with Tab), 0.50 mm pitch; 8 pin, 2.00 mm L X 2.00 mm W X 1.00 mm H body)
pins: 1 GND, 2 RFIN, 3 NC, 4 NC, 5 NC, 6 NC, 7 RFOUT, 8 GND, 9 GND

## EQY-8-63+
designator DA?
8.2 dB SMT Fixed Slope Equalizer, DC - 6000 MHz; Manufacturer: Mini-Circuits; PartNumber: EQY-8-63+; ComponentLink2Description: DataSheet; ComponentLink1Description: Product Page; ComponentLink1URL: https://www.minicircuits.com/WebStore/dashboard.html?model=EQY-8-63%2B; ComponentLink2URL: https://www.minicircuits.com/WebStore/dashboardPdf?model=EQY-8-63%2B
footprint SON9P50_200X200X100L35X23T120X60N (Small Outline No-Lead (SON with Tab), 0.50 mm pitch; 8 pin, 2.00 mm L X 2.00 mm W X 1.00 mm H body)
pins: 1 GND, 2 RFIN, 3 NC, 4 NC, 5 NC, 6 NC, 7 RFOUT, 8 GND, 9 GND

## EQY-10-63+
designator DA?
10.2 dB SMT Fixed Slope Equalizer, DC - 6000 MHz; Manufacturer: Mini-Circuits; PartNumber: EQY-10-63+; ComponentLink2Description: DataSheet; ComponentLink1Description: Product Page; ComponentLink1URL: https://www.minicircuits.com/WebStore/dashboard.html?model=EQY-10-63%2B; ComponentLink2URL: https://www.minicircuits.com/WebStore/dashboardPdf?model=EQY-10-63%2B
footprint SON9P50_200X200X100L35X23T120X60N (Small Outline No-Lead (SON with Tab), 0.50 mm pitch; 8 pin, 2.00 mm L X 2.00 mm W X 1.00 mm H body)
pins: 1 GND, 2 RFIN, 3 NC, 4 NC, 5 NC, 6 NC, 7 RFOUT, 8 GND, 9 GND

## EQY-XX-63+
designator DA?
Gain Equalizers, 50Ω, DC to 6 GHz, Slope 0,1,2,3,4,5,6,8&10 dB; Manufacturer: Mini-Circuits; PartNumber: EQY-XX-63+; ComponentLink1Description: Mini-Circuits equalizers page; ComponentLink1URL: https://www.minicircuits.com/WebStore/equalizers.html#; ComponentLink2Description: DataSheet
footprint SON9P50_200X200X100L35X23T120X60N (Small Outline No-Lead (SON with Tab), 0.50 mm pitch; 8 pin, 2.00 mm L X 2.00 mm W X 1.00 mm H body)
pins: 1 GND, 2 RFIN, 3 NC, 4 NC, 5 NC, 6 NC, 7 RFOUT, 8 GND, 9 GND

## ETC1-1-13
designator T?
E-Series Transformer, RF 1:1 Transmission Line 4.5 -3000 MHz; Manufacturer: MACOM; PartNumber: ETC1-1-13; ComponentLink1Description: Product Page; ComponentLink1URL: https://www.macom.com/products/product-detail/ETC1-1-13
footprint ETC1-1-13 (MACOM ETC1-1-13)
pins: 1 PRIDOT, 2 PRI, 3 SEC, 4 NC, 5 SECDOT

## IFSC-1008AB-01
designator L?, comment IFSC-1008ABERxxxM01
Low Profile, High Current Inductors; Manufacturer: Vishay; Tolerance: ±20%; PartNumber: IFSC-1008ABERxxxM01; Value: *; DCR: *; ISAT: *; ComponentLink1Description: Product Page; ComponentLink1URL: https://www.vishay.com/en/product/34294/; Package: 1008
footprint VISHAY IFSC-1008AB-01 (VISHAY Low Profile Inductor, 2x2.5)
pins: 1, 2

## Inductor
designator L?, comment 10 нГн
Inductor, generic; Value: 10 нГн; PartNumber: *; Tolerance: *; DCR: *; IRMS: *; ISAT: *; SRF: *; Q: *; Manufacturer: *; Package: 0603
footprint INDC60X30X33L15N (Inductor, Chip; 0.60 mm L X 0.30 mm W X 0.33 mm H body)
footprint INDC100X50X55L20N (Inductor, Chip; 1.00 mm L X 0.50 mm W X 0.55 mm H body)
footprint INDC160X80X100L30N (Inductor, Chip; 1.60 mm L X 0.80 mm W X 1.00 mm H body)
footprint INDC200X120X140L50N (Inductor, Chip; 2.00 mm L X 1.20 mm W X 1.40 mm H body)
footprint INDC250X200X100L60N (Inductor, Chip; 2.50 mm L X 2.00 mm W X 1.00 mm H body)
footprint INDC320X160X130L50N (Inductor, Chip; 3.20 mm L X 1.60 mm W X 1.30 mm H body)
footprint INDC320X250X220L90N (Inductor, Chip; 3.20 mm L X 2.50 mm W X 2.20 mm H body)
footprint INDC450X320X300L70N (Inductor, Chip; 4.50 mm L X 3.20 mm W X 3.00 mm H body)
pins: 1, 2

## Inductor0201
designator L?, comment 10 нГн
Inductor, chip, 0201; Value: 10 нГн; PartNumber: *; Tolerance: *; DCR: *; IRMS: *; ISAT: *; SRF: *; Q: *; Manufacturer: *; Package: 0201
footprint INDC60X30X33L15N (Inductor, Chip; 0.60 mm L X 0.30 mm W X 0.33 mm H body)
pins: 1, 2

## Inductor0402
designator L?, comment 10 нГн
Inductor, chip, 0402; Value: 10 нГн; PartNumber: *; Tolerance: *; DCR: *; IRMS: *; ISAT: *; SRF: *; Q: *; Manufacturer: *; Package: 0402
footprint INDC100X50X55L20N (Inductor, Chip; 1.00 mm L X 0.50 mm W X 0.55 mm H body)
pins: 1, 2

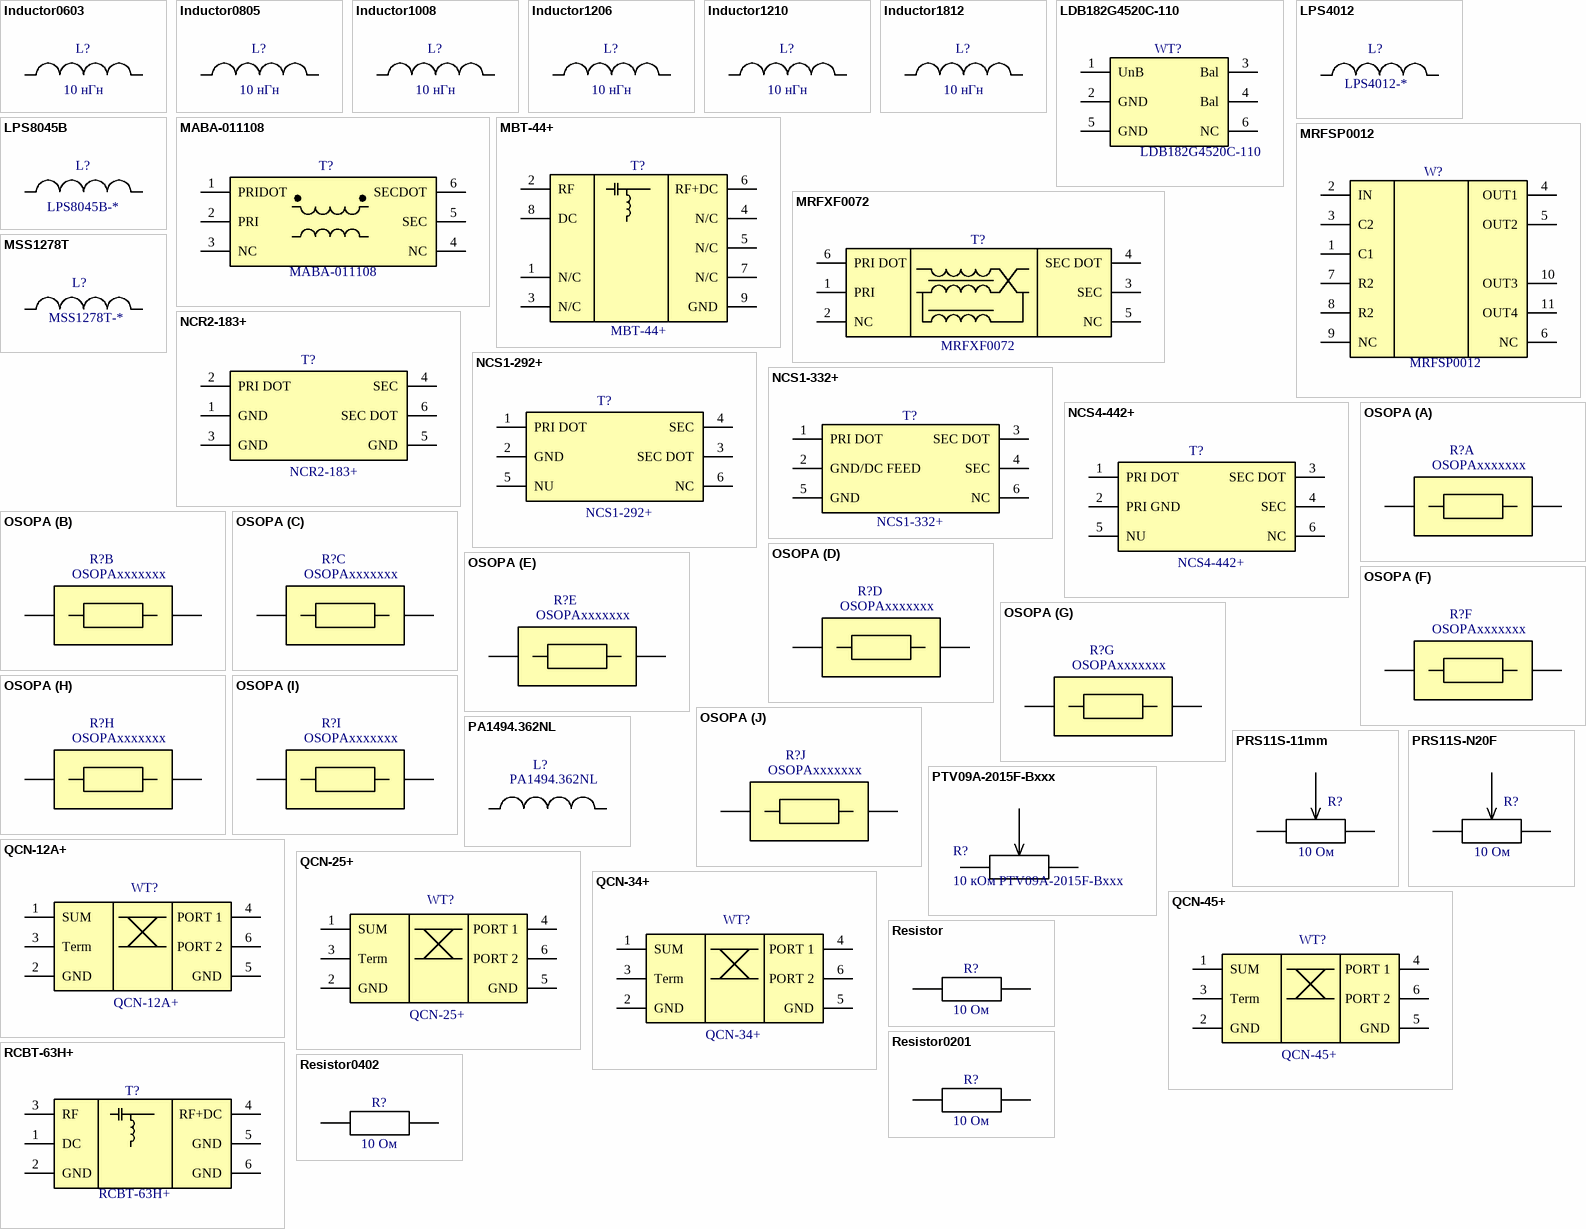
[diagram p2: symbols Inductor0603 to Resistor0402]

## Inductor0603
designator L?, comment 10 нГн
Inductor, chip, 0603; Value: 10 нГн; PartNumber: *; Tolerance: *; DCR: *; IRMS: *; ISAT: *; SRF: *; Q: *; Manufacturer: *; Package: 0603
footprint INDC160X80X100L30N (Inductor, Chip; 1.60 mm L X 0.80 mm W X 1.00 mm H body)
pins: 1, 2

## Inductor0805
designator L?, comment 10 нГн
Inductor, chip, 0805; Value: 10 нГн; PartNumber: *; Tolerance: *; DCR: *; IRMS: *; ISAT: *; SRF: *; Q: *; Manufacturer: *; Package: 0805
footprint INDC200X120X140L50N (Inductor, Chip; 2.00 mm L X 1.20 mm W X 1.40 mm H body)
pins: 1, 2

## Inductor1008
designator L?, comment 10 нГн
Inductor, chip, 0805; Value: 10 нГн; PartNumber: *; Tolerance: *; DCR: *; IRMS: *; ISAT: *; SRF: *; Q: *; Manufacturer: *; Package: 1008
footprint INDC250X200X100L60N (Inductor, Chip; 2.50 mm L X 2.00 mm W X 1.00 mm H body)
pins: 1, 2

## Inductor1206
designator L?, comment 10 нГн
Inductor, chip, 1206; Value: 10 нГн; PartNumber: *; Tolerance: *; DCR: *; IRMS: *; ISAT: *; SRF: *; Q: *; Manufacturer: *; Package: 1206
footprint INDC320X160X130L50N (Inductor, Chip; 3.20 mm L X 1.60 mm W X 1.30 mm H body)
pins: 1, 2

## Inductor1210
designator L?, comment 10 нГн
Inductor, chip, 1210; Value: 10 нГн; PartNumber: *; Tolerance: *; DCR: *; IRMS: *; ISAT: *; SRF: *; Q: *; Manufacturer: *; Package: 1210
footprint INDC320X250X220L90N (Inductor, Chip; 3.20 mm L X 2.50 mm W X 2.20 mm H body)
pins: 1, 2

## Inductor1812
designator L?, comment 10 нГн
Inductor, chip, 1812; Value: 10 нГн; PartNumber: *; Tolerance: *; DCR: *; IRMS: *; ISAT: *; SRF: *; Q: *; Manufacturer: *; Package: 1812
footprint INDC450X320X300L70N (Inductor, Chip; 4.50 mm L X 3.20 mm W X 3.00 mm H body)
pins: 1, 2

## LDB182G4520C-110
designator WT?
Chip Multilayer Hybrid Balun 2450.0 ±50.0MHz 50-200 Ohm; Manufacturer: Murata; PartNumber: LDB182G4520C-110
footprint ICCAF6P50_160X80X70L15X20N (Chip Array, 2 Side Flat, 0.50 mm pitch; 6 pin, 1.60 mm L X 0.80 mm W X 0.70 mm H body)
pins: 1 UnB, 2 GND, 3 Bal, 4 Bal, 5 GND, 6 NC

## LPS4012
designator L?, comment LPS4012-*
Low Profile Shielded Power Inductors; Manufacturer: Coilcraft; PartNumber: LPS4012-*; Value: *; DCR: *; SRF: *; ISAT: *; ComponentLink1Description: Product Page; ComponentLink1URL: https://www.coilcraft.com/en-us/products/power/shielded-inductors/ferrite-drum/lps/lps4012/?skuId=4989|8628; Tolerance: *; IRMS: *
footprint LPS4012 (Coilcraft LPS4012- series)
pins: 1, 2

## LPS8045B
designator L?, comment LPS8045B-*
Shielded Power Inductor; Manufacturer: Coilcraft; Value: 10 мкГн; Tolerance: ±20%; PartNumber: LPS8045B-*; DCR: *; SRF: *; ISAT: *; ComponentLink1Description: Product Page; ComponentLink1URL: https://www.coilcraft.com/en-us/products/power/shielded-inductors/ferrite-drum/lps/lps8045b/; IRMS: *
footprint COILCRAFT_LPS8045B (Coilcraft LPS8045B)
pins: 1, 2

## MABA-011108
designator T?
1:1 Transmission Line Balun 5 MHz - 10GHz; Manufacturer: MACOM; PartNumber: MABA-011108; ComponentLink1Description: Product Page; ComponentLink1URL: https://www.macom.com/products/product-detail/MABA-011108
footprint MABA-011108 (MA-COM 3.81X3.81X3.22 6-pin)
pins: 1 PRIDOT, 2 PRI, 3 NC, 4 NC, 5 SEC, 6 SECDOT

## MBT-44+
designator T?
MMIC WIDEBAND Bias Tee 50Ω 10 to 40 GHz; Manufacturer: Mini-Circuits; PartNumber: MBT-44+; ComponentLink1Description: Product Page; ComponentLink1URL: https://www.minicircuits.com/WebStore/dashboard.html?model=MBT-44%2B; ComponentLink2Description: DataSheet; ComponentLink2URL: https://www.minicircuits.com/WebStore/dashboardPdf?model=MBT-44%2B
footprint JV3002 (Mini-Circuits case JV3002)
pins: 1 N/C, 2 RF, 3 N/C, 4 N/C, 5 N/C, 6 RF+DC, 7 N/C, 8 DC, 9 GND

## MRFSP0012
designator W?
4-Way Splitter 5 to 1002 MHz; Manufacturer: MiniRF; PartNumber: MRFSP0012; ComponentLink1Description: ProductPage; ComponentLink1URL: https://www.rfmw.com/products/detail/mrfsp0012-minirf/465633/; ComponentLink2Description: DataSheet; ComponentLink2URL: http://www.minirf.com/pdf/splitters/MRFSP0012.pdf
footprint MRFSP0012 (MRFSP0012 Packadge S25)
pins: 1 C1, 2 IN, 3 C2, 4 OUT1, 5 OUT2, 6 NC, 7 R2, 8 R2, 9 NC, 10 OUT3, 11 OUT4

## MRFXF0072
designator T?
1:1 SMT TRANSFORMER 75 Ohm; Manufacturer: MiniRF; PartNumber: MRFXF0072; ComponentLink1Description: Product Page; ComponentLink1URL: https://www.rfmw.com/products/detail/mrfxf0072-minirf/701862/; ComponentLink2Description: DataSheet; ComponentLink2URL: http://minirf.com/images/MRFXF0072.pdf
footprint MiniRF CASE S-18D (6 pin, 2.54 pitch, 7.11 x 6.35 x 3.18)
pins: 1 PRI, 2 NC, 3 SEC, 4 SEC DOT, 5 NC, 6 PRI DOT

## MSS1278T
designator L?, comment MSS1278T-*
Colicraft SMT Power Inductors; Manufacturer: Coilcraft; PartNumber: MSS1278T-*; Value: *; DCR: *; SRF: *; ISAT: *; ComponentLink1Description: Product Page; ComponentLink1URL: https://www.coilcraft.com/en-us/products/power/shielded-inductors/ferrite-drum/mss-mos/mss1278t/; IRMS: *; Tolerance: *
footprint MSS1278T (Coilcraft MSS1278T Series)
pins: 1, 2

## NCR2-183+
designator T?
RF Transformer; Manufacturer: Mini-Circuits; PartNumber: NCR2-183+; ComponentLink1Description: Product Page; ComponentLink1URL: https://www.minicircuits.com/WebStore/dashboard.html?model=NCR2-183%2B; ComponentLink2Description: DataSheet; ComponentLink2URL: https://www.minicircuits.com/WebStore/dashboardPdf?model=NCR2-183%2B
footprint NF1846-1 (Mini-Circuits case NF1846-1)
pins: 1 GND, 2 PRI DOT, 3 GND, 4 SEC, 5 GND, 6 SEC DOT

## NCS1-292+
designator T?
RF Transformer; Manufacturer: Mini-Circuits; PartNumber: NCS1-292+; ComponentLink1Description: Product Page; ComponentLink1URL: https://www.minicircuits.com/WebStore/dashboard.html?model=NCS1-292%2B; ComponentLink2Description: DataSheet; ComponentLink2URL: https://www.minicircuits.com/WebStore/dashboardPdf?model=NCS1-292%2B
footprint GE0805C-1 (Mini-Circuits case GE0805C-1)
pins: 1 PRI DOT, 2 GND, 3 SEC DOT, 4 SEC, 5 NU, 6 NC

## NCS1-332+
designator T?
RF Transformer, 50Ω 700 to 3300, MHz 1:1 Ratio; Manufacturer: Mini-Circuits; PartNumber: NCS1-332+; ComponentLink1Description: Product Page; ComponentLink1URL: https://www.minicircuits.com/WebStore/dashboard.html?model=NCS1-332%2B; ComponentLink2Description: DataSheet; ComponentLink2URL: https://www.minicircuits.com/WebStore/dashboardPdf?model=NCS1-332%2B
footprint GE0805C-9 (Mini-Circuits case GE0805C-9)
pins: 1 PRI DOT, 2 GND/DC FEED, 3 SEC DOT, 4 SEC, 5 GND, 6 NC

## NCS4-442+
designator T?
RF Transformer 50Ω 3300 to 4200 MHz 1:4 Ratio; Manufacturer: Mini-Circuits; PartNumber: NCS4-442+; ComponentLink1Description: Product Page; ComponentLink1URL: https://www.minicircuits.com/WebStore/dashboard.html?model=NCS4-442%2B; ComponentLink2Description: DataSheet; ComponentLink2URL: https://www.minicircuits.com/WebStore/dashboardPdf?model=NCS4-442%2B
footprint GE0805C-1 (Mini-Circuits case GE0805C-1)
pins: 1 PRI DOT, 2 PRI GND, 3 SEC DOT, 4 SEC, 5 NU, 6 NC

## OSOPA
designator R?, comment OSOPAxxxxxxx
Dual-In-Line Thin Film Resistor,  Surface Mount Network, Isolated; Manufacturer: Vishay; PartNumber: OSOPAxxxxxxx; Value: *; Tolerance: *; Power: *; DCV: *; ComponentLink1Description: Product Page; ComponentLink1URL: https://www.vishay.com/en/product/60002/; ComponentLink2Description: DataSheet; ComponentLink2URL: https://www.vishay.com/docs/60002/osop.pdf
footprint SOP20P63_866X602X173L64X25N (Small Outline Pkg (SOP), 0.635 mm pitch; 20 pin, 8.66 mm L X 3.91 mm W X 1.73 mm H body)
part A pins: 1, 20
part B pins: 2, 19
part C pins: 3, 18
part D pins: 4, 17
part E pins: 5, 16
part F pins: 6, 15
part G pins: 7, 14
part H pins: 8, 13
part I pins: 9, 12
part J pins: 10, 11

## PA1494.362NL
designator L?
SMT POWER INDUCTOR Planar - PA1X9XNL Series; Manufacturer: Pulse; Value: 3,3 мкГн; PartNumber: PA1494.362NL; Tolerance: *; DCR: *; IRMS: *; ISAT: *; SRF: *; Q: *; ComponentLink1Description: Product Page; ComponentLink1URL: https://productfinder.pulseelectronics.com/part/pa1494.362nlt; ComponentLink2Description: DataSheet; ComponentLink2URL: https://productfinder.pulseelectronics.com/api/open/part-attachments/datasheet/pa1494.362nlt
footprint PA1494 (Pulse Planar inductor)
pins: 1, 2

## PRS11S-11mm
designator R?, comment 10 Ом
11 mm SMD Potentiometer; PartNumber: PRS11S-*; Manufacturer: Bourns; Value: 10 Ом; ComponentLink1Description: DataSheet; ComponentLink1URL: https://www.bourns.com/data/global/pdfs/PRS11S.pdf
footprint PRS11S-11mm (Bourns 11 mm SMD Potentiometer with Mounting Holes)
pins: 1, 2, 3

## PRS11S-N20F
designator R?, comment 10 Ом
PRS11S - 11 mm SMD Potentiometer; PartNumber: PRS11S-N20F; Manufacturer: Bourns; Value: 10 Ом; ComponentLink1Description: DataSheet; ComponentLink1URL: https://www.bourns.com/data/global/pdfs/PRS11S.pdf
footprint PRS11S (PRS11S - 11 mm SMD Potentiometer)
pins: 1, 2, 3

## PTV09A-2015F-Bxxx
designator R?, comment 10 кОм PTV09A-2015F-Bxxx
PTV09 Series - 9 mm Potentiometer / Vertical/Side Mount, / Bushingless, 10 mm Height; Manufacturer: Bourns; Value: 10 кОм; Tolerance: ±20%; VDC: 20 В; Power: 1/20 Вт; PartNumber: PTV09A-2015F-Bxxx; ComponentLink1Description: DataSheet; ComponentLink1URL: https://www.bourns.com/docs/Product-Datasheets/PTV09.pdf
footprint PTV09A-2015F (Bourns Vertical/Side Mount,  Bushingless, 10 mm Height)
pins: 1, 2, 3

## QCN-12A+
designator WT?
Power Splitter/Combiner; Manufacturer: Mini-Circuits; PartNumber: QCN-12A+; ComponentLink1Description: Product Page; ComponentLink1URL: https://www.minicircuits.com/WebStore/dashboard.html?model=QCN-12A%2B; ComponentLink2Description: DataSheet; ComponentLink2URL: https://www.minicircuits.com/WebStore/dashboardPdf?model=QCN-12A%2B
footprint FV1206-1 (Mini-Circuits case FV1206-1)
pins: 1 SUM, 2 GND, 3 Term, 4 PORT 1, 5 GND, 6 PORT 2

## QCN-25+
designator WT?
Power Splitter/Combiner; Manufacturer: Mini-Circuits; PartNumber: QCN-25+; ComponentLink1Description: Product Page; ComponentLink1URL: https://www.minicircuits.com/WebStore/dashboard.html?model=QCN-25%2B; ComponentLink2Description: DataSheet; ComponentLink2URL: https://www.minicircuits.com/WebStore/dashboardPdf?model=QCN-25%2B
footprint FV1206-1 (Mini-Circuits case FV1206-1)
pins: 1 SUM, 2 GND, 3 Term, 4 PORT 1, 5 GND, 6 PORT 2

## QCN-34+
designator WT?
Power Splitter/Combiner; Manufacturer: Mini-Circuits; PartNumber: QCN-34+; ComponentLink1Description: Product Page; ComponentLink1URL: https://www.minicircuits.com/WebStore/dashboard.html?model=QCN-34%2B; ComponentLink2Description: DataSheet; ComponentLink2URL: https://www.minicircuits.com/WebStore/dashboardPdf?model=QCN-34%2B
footprint FV1206-1 (Mini-Circuits case FV1206-1)
pins: 1 SUM, 2 GND, 3 Term, 4 PORT 1, 5 GND, 6 PORT 2

## QCN-45+
designator WT?
Power Splitter/Combiner; Manufacturer: Mini-Circuits; PartNumber: QCN-45+; ComponentLink1Description: Product Page; ComponentLink1URL: https://www.minicircuits.com/WebStore/dashboard.html?model=QCN-45%2B; ComponentLink2Description: DataSheet; ComponentLink2URL: https://www.minicircuits.com/WebStore/dashboardPdf?model=QCN-45%2B
footprint FV1206-1 (Mini-Circuits case FV1206-1)
pins: 1 SUM, 2 GND, 3 Term, 4 PORT 1, 5 GND, 6 PORT 2

## RCBT-63H+
designator T?
Bias Tee 50Ω Wideband 900 MHz to 6 GHz; Manufacturer: Mini-Circuits; PartNumber: RCBT-63H+; ComponentLink1Description: Product Page; ComponentLink1URL: https://www.minicircuits.com/WebStore/dashboard.html?model=RCBT-63H%2B; ComponentLink2Description: DataSheet; ComponentLink2URL: https://www.minicircuits.com/WebStore/dashboardPdf?model=RCBT-63H%2B
footprint TT1224-2 (Mini-Circuits case TT1224-2)
pins: 1 DC, 2 GND, 3 RF, 4 RF+DC, 5 GND, 6 GND

## Resistor
designator R?, comment 10 Ом
Resistor, generic; Value: 10 Ом; PartNumber: *; Tolerance: *; Power: *; DCV: *; Manufacturer: *; Package: 0402
footprint RESC60X30X28L15N (Resistor, Chip; 0.60 mm L X 0.30 mm W X 0.28 mm H body)
footprint RESC100X50X40L25N (Resistor, Chip; 1.00 mm L X 0.50 mm W X 0.40 mm H body)
footprint RESC160X80X60L30N (Resistor, Chip; 1.60 mm L X 0.80 mm W X 0.60 mm H body)
footprint RESC200X125X65L40N (Resistor, Chip; 2.00 mm L X 1.25 mm W X 0.65 mm H body)
footprint RESC310X160X65L40N (Resistor, Chip; 3.10 mm L X 1.60 mm W X 0.65 mm H body)
footprint RESC310X260X65L50N (Resistor, Chip; 3.10 mm L X 2.60 mm W X 0.65 mm H body)
footprint RESC450X320X70L50N (Resistor, Chip; 4.50 mm L X 3.20 mm W X 0.70 mm H body)
footprint RESC500X250X65L50N (Resistor, Chip; 5.00 mm L X 2.50 mm W X 0.65 mm H body)
footprint RESC635X310X65L50N (Resistor, Chip; 6.35 mm L X 3.10 mm W X 0.65 mm H body)
footprint RESC160X320X60L45N (Resistor, Chip; 1.60 mm L X 3.20 mm W X 0.60 mm H body)
footprint RESC310X460X65L40N (Resistor, Chip; 3.10 mm L X 4.60 mm W X 0.65 mm H body)
pins: 1, 2

## Resistor0201
designator R?, comment 10 Ом
Resistor, chip, 0201; Value: 10 Ом; PartNumber: *; Tolerance: *; Power: *; DCV: *; Manufacturer: *; Package: 0201
footprint RESC60X30X28L15N (Resistor, Chip; 0.60 mm L X 0.30 mm W X 0.28 mm H body)
pins: 1, 2